# Altium schematic symbol library TCA9548A.Schlib: 1 symbol
Pins are listed as number, name and electrical type; pins without a type are passive.

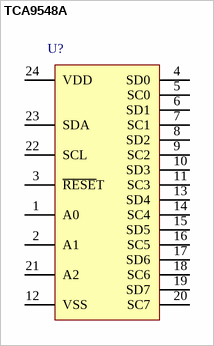
[diagram p0: symbol TCA9548A]

## TCA9548A
designator U?  (value not drawn)
I2C 8-Channle Mux, TCA9548A
pins: 1 A0, 2 A1, 3 ~{RESE}T, 4 SD0, 5 SC0, 6 SD1, 7 SC1, 8 SD2, 9 SC2, 10 SD3, 11 SC3, 12 VSS (power), 13 SD4, 14 SC4, 15 SD5, 16 SC5, 17 SD6, 18 SC6, 19 SD7, 20 SC7, 21 A2, 22 SCL, 23 SDA, 24 VDD (power)